# EAGLE library part LV8549M (library radu-collected)
ON LV8549M Stepper driver
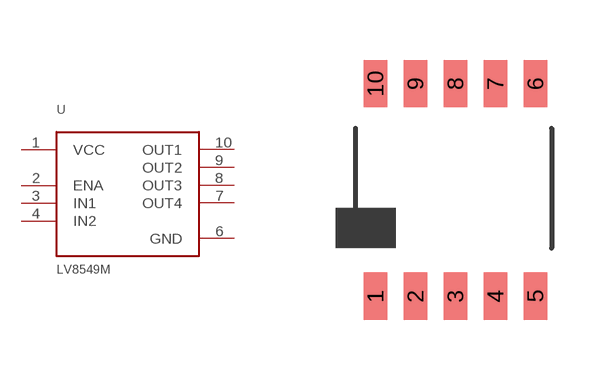
[diagram p16: symbol with the pads of SOIC10; footprint SOIC10]

Designator prefix U

## LV8549M  [SOIC10]
1  VCC  pwr
2  ENA  in
3  IN1  in
4  IN2  in
6  GND  pwr
7  OUT4  out
8  OUT3  out
9  OUT2  out
10  OUT1  out

## Footprint SOIC10 (pad centres in mm)
SOIC10
smd 0.58 x 1.18: 1 -2,-2.7; 2 -1,-2.7; 3 0,-2.7; 4 1,-2.7; 5 2,-2.7; 6 2,2.62; 7 1,2.62; 8 0,2.62; 9 -1,2.62; 10 -2,2.62